# EAGLE library part IFX9201SGAUMA1 (library IFX9201SGAUMA1)
INFINEON - IFX9201SGAUMA1 - MOTOR CONTROLLER, HALF BRIDGE, SOIC-12 Source: Datasheet <https://www.infineon.com/dgdl/Infineon-IFX9201SG-DS-v01_01-EN.pdf?fileId=5546d4624cb7f111014d2e8916795dea>
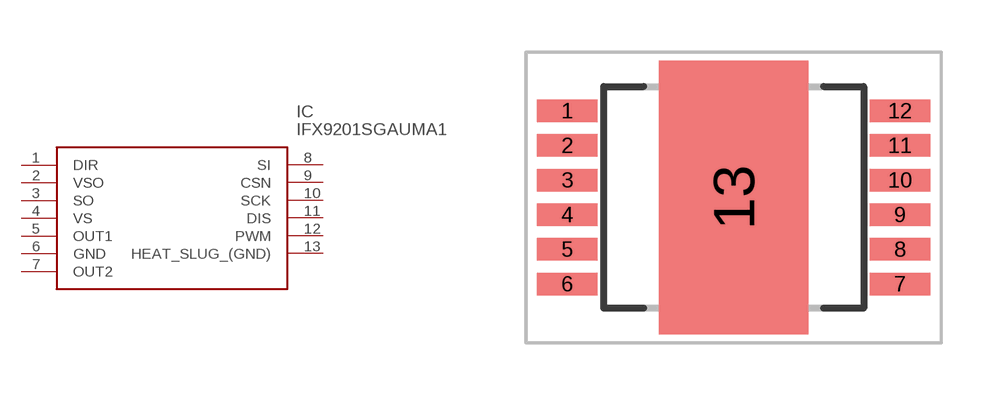
[diagram p0: symbol with the pads of PG-DSO-12-17; footprint PG-DSO-12-17]

Designator prefix IC

## IFX9201SGAUMA1 (Arrow_Part_Number: IFX9201SGAUMA1; Arrow_Price-Stock: https://www.arrow.com/en/products/ifx9201sgauma1/infineon-technologies-ag?region=nac; Description: INFINEON - IFX9201SGAUMA1 - MOTOR CONTROLLER, HALF BRIDGE, SOIC-12; Height: 2.6mm; Manufacturer_Name: Infineon; Manufacturer_Part_Number: IFX9201SGAUMA1; Mouser_Part_Number: 726-IFX9201SGAUMA1; Mouser_Price-Stock: https://www.mouser.co.uk/ProductDetail/Infineon-Technologies/IFX9201SGAUMA1?qs=CVaTMblcXggE9XQ1VnAvKA%3D%3D)  [PG-DSO-12-17]
1  DIR
2  VSO
3  SO
4  VS
5  OUT1
6  GND
7  OUT2
8  SI
9  CSN
10  SCK
11  DIS
12  PWM
13  HEAT_SLUG_(GND)

## Footprint PG-DSO-12-17 (pad centres in mm)
PG-DSO-12-17
smd 1.75 x 0.65: 1 -4.8,2.5; 2 -4.8,1.5; 3 -4.8,0.5; 4 -4.8,-0.5; 5 -4.8,-1.5; 6 -4.8,-2.5; 7 4.8,-2.5; 8 4.8,-1.5; 9 4.8,-0.5; 10 4.8,0.5; 11 4.8,1.5; 12 4.8,2.5
smd 4.3 x 7.9: 13 0,0